# EAGLE library part NRF51822 (library Dal_V2)
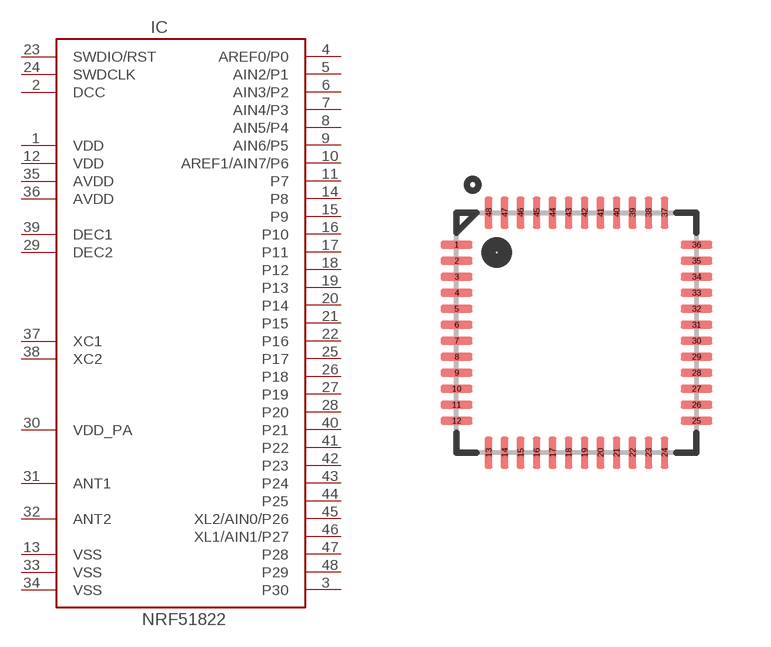
[diagram p4: symbol with the pads of QFN48; footprint QFN48]

Designator prefix IC

## NRF51822QFAA  [QFN48]
1  VDD  pas
2  DCC  pas
3  P30
4  AREF0/P0
5  AIN2/P1
6  AIN3/P2
7  AIN4/P3
8  AIN5/P4
9  AIN6/P5
10  AREF1/AIN7/P6
11  P7
12  VDD  pas
13  VSS  pas
14  P8
15  P9
16  P10
17  P11
18  P12
19  P13
20  P14
21  P15
22  P16
23  SWDIO/RST  pas
24  SWDCLK  pas
25  P17
26  P18
27  P19
28  P20
29  DEC2  pas
30  VDD_PA  pas
31  ANT1  pas
32  ANT2  pas
33  VSS  pas
34  VSS  pas
35  AVDD  pas
36  AVDD  pas
37  XC1  pas
38  XC2  pas
39  DEC1  pas
40  P21
41  P22
42  P23
43  P24
44  P25
45  XL2/AIN0/P26
46  XL1/AIN1/P27
47  P28
48  P29

## Footprint QFN48 (pad centres in mm)
smd 0.8 x 0.2: 1 -3,2.2; 2 -3,1.8; 3 -3,1.4; 4 -3,1; 5 -3,0.6; 6 -3,0.2; 7 -3,-0.2; 8 -3,-0.6; 9 -3,-1; 10 -3,-1.4; 11 -3,-1.8; 12 -3,-2.2; 25 3,-2.2; 26 3,-1.8; 27 3,-1.4; 28 3,-1; 29 3,-0.6; 30 3,-0.2; 31 3,0.2; 32 3,0.6; 33 3,1; 34 3,1.4; 35 3,1.8; 36 3,2.2
smd 0.2 x 0.8: 13 -2.2,-3; 14 -1.8,-3; 15 -1.4,-3; 16 -1,-3; 17 -0.6,-3; 18 -0.2,-3; 19 0.2,-3; 20 0.6,-3; 21 1,-3; 22 1.4,-3; 23 1.8,-3; 24 2.2,-3; 37 2.2,3; 38 1.8,3; 39 1.4,3; 40 1,3; 41 0.6,3; 42 0.2,3; 43 -0.2,3; 44 -0.6,3; 45 -1,3; 46 -1.4,3; 47 -1.8,3; 48 -2.2,3